# Altium integrated library IC - Interface.IntLib: 6 symbols
Pins are listed as number, name and electrical type; pins without a type are passive.

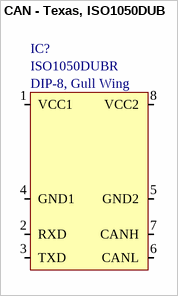
[diagram p0: symbol CAN - Texas, ISO1050DUB]

## CAN - Texas, ISO1050DUB
designator IC?  Manufacturer Part Number: ISO1050DUBR  Package: DIP-8, Gull Wing  (hidden comment: *)
IC, Interface, CAN, DIP-8, Gull Wing; Manufacturer: Texas; ComponentLink1Description: Datasheet; ComponentLink1URL: E:\Altium\Datasheets\IC - Interface\CAN - Texas, ISO1050.pdf; ComponentLink2Description: Supplier Link; ComponentLink2URL: https://www.digikey.com/en/products/detail/texas-instruments/ISO1050DUBR/2094633; Supplier: Digikey; Supplier Part Number: 296-24818-1-ND; Operating Temperature, Min: -55℃; Operating Temperature, Max: +105℃; Quantity, Min: 1; Quantity, Max: 1050; Price, Min: 5.71; Supplier Currency: $; Price, Max: 3.25280; Supplier Link: https://www.digikey.com/en/products/detail/texas-instruments/ISO1050DUBR/2094633; Component Type: Interface; Component Category: IC
footprint DIP-8, Gull Wing
pins: 1 VCC1, 2 RXD, 3 TXD, 4 GND1, 5 GND2, 6 CANL, 7 CANH, 8 VCC2


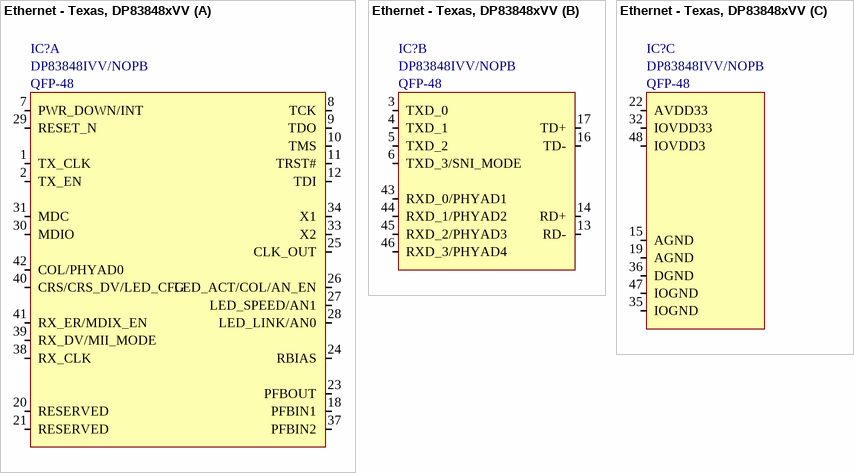
[diagram p1: symbol Ethernet - Texas, DP83848xVV]

## Ethernet - Texas, DP83848xVV
designator IC?  Manufacturer Part Number: DP83848IVV/NOPB  Package: QFP-48  (hidden comment: *)
IC, Interface, RS422, SOIC-8; Manufacturer: Texas; ComponentLink1Description: Datasheet; ComponentLink1URL: E:\Altium\Datasheets\IC - Interface\Ethernet - Texas, DP83848.pdf; ComponentLink2Description: Supplier Link; ComponentLink2URL: https://www.digikey.com/en/products/detail/texas-instruments/DP83848IVV-NOPB/947543; Supplier: Digikey; Supplier Part Number: DP83848IVV/NOPB-ND; Operating Temperature, Min: -40℃; Operating Temperature, Max: +85℃; Quantity, Min: 1; Quantity, Max: 1000; Price, Min: 6.45; Supplier Currency: $; Price, Max: 3.834; Supplier Link: https://www.digikey.com/en/products/detail/texas-instruments/DP83848IVV-NOPB/947543; Component Type: Interface; Component Category: IC
footprint QFP-48, 7mm x 7mm, 0.5mm
part A pins: 1 TX_CLK, 2 TX_EN, 7 PWR_DOWN/INT, 8 TCK, 9 TDO, 10 TMS, 11 TRST#, 12 TDI, 18 PFBIN1, 20 RESERVED, 21 RESERVED, 23 PFBOUT, 24 RBIAS, 25 CLK_OUT, 26 LED_ACT/COL/AN_EN, 27 LED_SPEED/AN1, 28 LED_LINK/AN0, 29 RESET_N, 30 MDIO, 31 MDC, 33 X2, 34 X1, 37 PFBIN2, 38 RX_CLK, 39 RX_DV/MII_MODE, 40 CRS/CRS_DV/LED_CFG, 41 RX_ER/MDIX_EN, 42 COL/PHYAD0
part B pins: 3 TXD_0, 4 TXD_1, 5 TXD_2, 6 TXD_3/SNI_MODE, 13 RD-, 14 RD+, 16 TD-, 17 TD+, 43 RXD_0/PHYAD1, 44 RXD_1/PHYAD2, 45 RXD_2/PHYAD3, 46 RXD_3/PHYAD4
part C pins: 15 AGND, 19 AGND, 22 AVDD33, 32 IOVDD33, 35 IOGND, 36 DGND, 47 IOGND, 48 IOVDD3


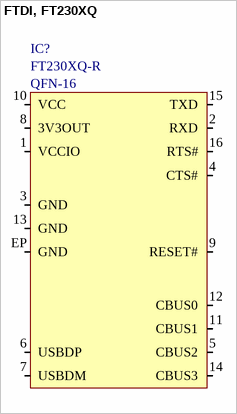
[diagram p2: symbol FTDI, FT230XQ]

## FTDI, FT230XQ
designator IC?  Manufacturer Part Number: FT230XQ-R  Package: QFN-16  (hidden comment: *)
IC, Interface, FTDI, QFN-16; ComponentLink1Description: Datasheet; ComponentLink1URL: E:\Altium\Datasheets\IC - Interface\FTDI, FT230X.pdf; ComponentLink2Description: Supplier Link; ComponentLink2URL: https://www.digikey.com/en/products/detail/ftdi-future-technology-devices-international-ltd/FT230XQ-R/3029142; Supplier: Digikey; Supplier Part Number: 768-1130-1-ND; Manufacturer: FTDI; Operating Temperature, Min: -40℃; Operating Temperature, Max: +85℃; Quantity, Min: 1; Quantity, Max: 5000; Price, Min: 2.14; Supplier Currency: $; Price, Max: 1.7125; Supplier Link: https://www.digikey.com/en/products/detail/ftdi-future-technology-devices-international-ltd/FT230XQ-R/3029142; Component Type: Interface; Component Category: IC
footprint QFN-16, 4mm x 4mm, 0.65mm
pins: 1 VCCIO, 2 RXD, 3 GND, 4 CTS#, 5 CBUS2, 6 USBDP, 7 USBDM, 8 3V3OUT, 9 RESET#, 10 VCC, 11 CBUS1, 12 CBUS0, 13 GND, 14 CBUS3, 15 TXD, 16 RTS#, EP GND


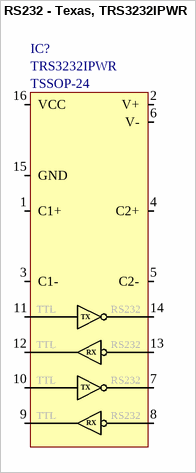
[diagram p3: symbol RS232 - Texas, TRS3232IPWR]

## RS232 - Texas, TRS3232IPWR
designator IC?  Manufacturer Part Number: TRS3232IPWR  Package: TSSOP-24  (hidden comment: *)
IC, Interface, RS232, TSSOP-24; Manufacturer: Texas; ComponentLink1Description: Datasheet; ComponentLink1URL: E:\Altium\Datasheets\IC - Interface\RS232 - Texas, TRS3232.pdf; ComponentLink2Description: Supplier Link; ComponentLink2URL: https://www.digikey.com/en/products/detail/texas-instruments/TRS3232IPWR/1909117; Supplier: Digikey; Supplier Part Number: 296-24818-1-ND; Operating Temperature, Min: -55℃; Operating Temperature, Max: +85℃; Quantity, Min: 1; Quantity, Max: 2000; Price, Min: 1.95; Supplier Currency: $; Price, Max: 0.9984; Supplier Link: https://www.digikey.com/en/products/detail/texas-instruments/TRS3232IPWR/1909117; Component Type: Interface; Component Category: IC
footprint TSSOP-16
pins: 1 C1+, 2 V+, 3 C1-, 4 C2+, 5 C2-, 6 V-, 7 DOUT2, 8 RIN2, 9 ROUT2, 10 DIN2, 11 DIN1, 12 ROUT1, 13 RIN1, 14 DOUT1, 15 GND, 16 VCC
text: TTL; TX; RS232; RX


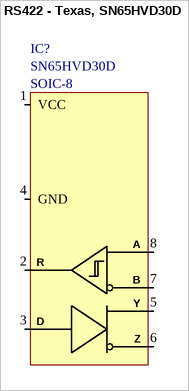
[diagram p4: symbol RS422 - Texas, SN65HVD30D]

## RS422 - Texas, SN65HVD30D
designator IC?  Manufacturer Part Number: SN65HVD30D  Package: SOIC-8  (hidden comment: *)
IC, Interface, RS422, SOIC-8; Manufacturer: Texas; ComponentLink1Description: Datasheet; ComponentLink1URL: E:\Altium\Datasheets\IC - Interface\RS422 - Texas, SN65HVD3x.pdf; ComponentLink2Description: Supplier Link; ComponentLink2URL: https://www.digikey.com/en/products/detail/texas-instruments/SN65HVD30D/1574539; Supplier: Digikey; Supplier Part Number: 296-26346-5-ND; Operating Temperature, Min: -55℃; Operating Temperature, Max: +85℃; Quantity, Min: 1; Quantity, Max: 1000; Price, Min: 5.44; Supplier Currency: $; Price, Max: 3.1008; Supplier Link: https://www.digikey.com/en/products/detail/texas-instruments/SN65HVD30D/1574539; Component Type: Interface; Component Category: IC
footprint SOIC-8, NB
pins: 1 VCC, 2 R, 3 D, 4 GND, 5 Y, 6 Z, 7 B, 8 A


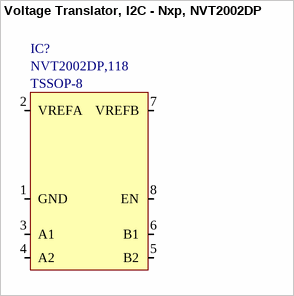
[diagram p5: symbol Voltage Translator, I2C - Nxp, NVT2002DP]

## Voltage Translator, I2C - Nxp, NVT2002DP
designator IC?  Manufacturer Part Number: NVT2002DP,118  Package: TSSOP-8  (hidden comment: *)
IC, Interface, I2C, TSSOP-8; Manufacturer: Nxp; ComponentLink1Description: Datasheet; ComponentLink1URL: E:\Altium\Datasheets\IC - Interface\Voltage Translator, I2C - Nxp, NVT2001, NVT2002.pdf; ComponentLink2Description: Supplier Link; ComponentLink2URL: https://www.digikey.com/en/products/detail/nxp-usa-inc/NVT2002DP-118/2355938; Supplier: Digikey; Supplier Part Number: 568-5121-1-ND; Operating Temperature, Min: -40℃; Operating Temperature, Max: +85℃; Quantity, Min: 1; Quantity, Max: 5000; Price, Min: 0.94; Supplier Currency: $; Price, Max: 0.35985; Supplier Link: https://www.digikey.com/en/products/detail/nxp-usa-inc/NVT2002DP-118/2355938; Component Type: Interface; Component Category: IC
footprint TSSOP-8, Body 3mm, Pitch 0.65mm
pins: 1 GND, 2 VREFA, 3 A1, 4 A2, 5 B2, 6 B1, 7 VREFB, 8 EN